# Altium schematic symbol library RTC_DS1338Z-33+.SchLib: 1 symbol
Pins are listed as number, name and electrical type; pins without a type are passive.

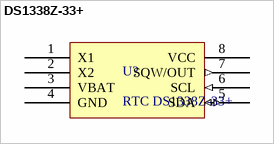
[diagram p0: symbol DS1338Z-33+]

## DS1338Z-33+
designator U?, comment RTC DS1338Z-33+
RTC I2C DS1338Z-33+ SOIC-8; Manufacturer: Maxim Integrated; Reference: DS1338Z-33+
footprint DS1338Z-33+ (TSOP, 8-Leads, Body 4,90x3,90mm, Pitch 1,27mm, IPC Medium Density)
pins: 1 X1, 2 X2, 3 VBAT (power), 4 GND (power), 5 SDA (io), 6 SCL (in), 7 SQW/OUT (out), 8 VCC (power)